# EAGLE library part TS4990 (library all-chips)
TS4990 STMicroelectronics 1.2 W audio power amplifier with active-low standby mode
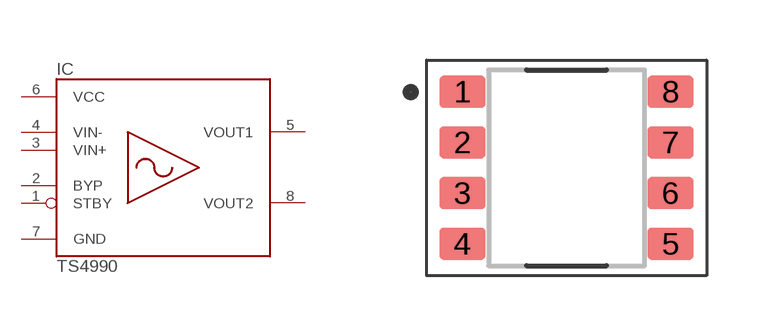
[diagram p5: symbol with the pads of SOIC8_3.90X4.90MM; footprint SOIC8_3.90X4.90MM]

Designator prefix IC

## TS4990IDT  [SOIC8_3.90X4.90MM]
1  STBY  in
2  BYP  in
3  VIN+  in
4  VIN-  in
5  VOUT1  out
6  VCC  pwr
7  GND  pwr
8  VOUT2  out

## Footprint SOIC8_3.90X4.90MM (pad centres in mm)
https://www.analog.com/media/en/package-pcb-resources/package/pkg_pdf/ltc-legacy-soic/05081610_G_SO8.pdf
smd 1.15 x 0.8: 1 -2.6,1.905; 2 -2.6,0.635; 3 -2.6,-0.635; 4 -2.6,-1.905; 5 2.6,-1.905; 6 2.6,-0.635; 7 2.6,0.635; 8 2.6,1.905